# Altium schematic symbol library Schlib.SchLib: 27 symbols
Pins are listed as number, name and electrical type; pins without a type are passive.

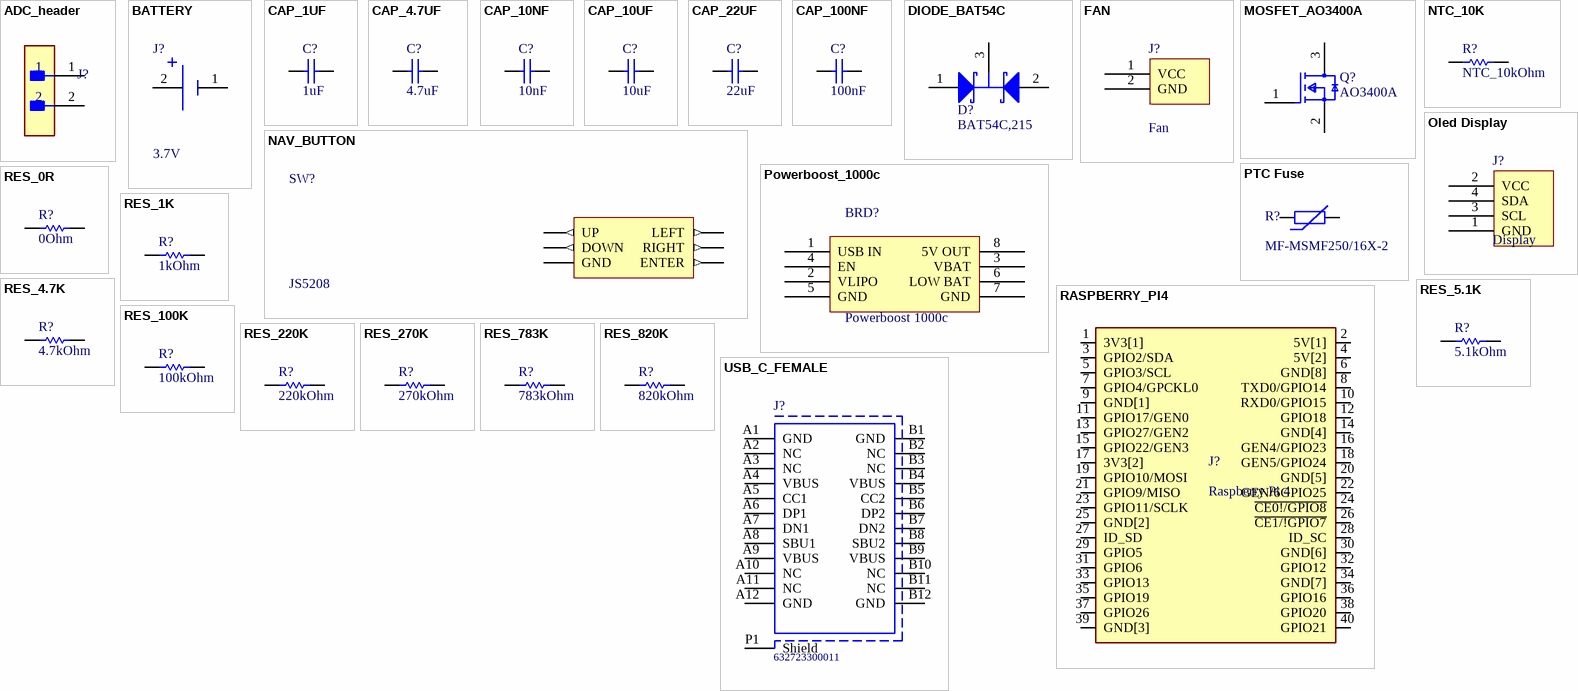
[diagram p0: symbols ADC_header to USB_C_FEMALE]

## ADC_header
designator J?  (value not drawn)
footprint ADC_HEADER
pins: 1, 2

## BATTERY
designator J?, comment 3.7V
CONN HEADER VERT 2POS 1.25MM; Manufacturer Part Number: 53047-0210; Manufacturer: Molex; Conn Gender: Male; Voltage Rating: 125V; Conn Orientation: Vertical; Number Of Contacts: 2; Current Rating: 1A; Contact Material: Tin; Temperature Range Low: -40°C; ComponentLink2URL: http://www.molex.com/webdocs/datasheets/pdf/en-us/0530470210_PCB_HEADERS.pdf; Mouser Description: 1.25mm Pitch PicoBlade™ Wire-to-Board Header, Vertical, with Friction Lock, 2 Circuits; Temperature Range High: +85°C; ComponentLink2Description: Datasheet; Automotive: No; RoHS: TRUE; Ambient Temperature Range High: +85°C; Octopart: https://octopart.com/53047-0210-molex-276772; Footprint Url: https://www.molex.com/pdm_docs/sd/530470210_sd.pdf; Lead Free: Yes; Pitch: 1.25mm; Temperature: -40°C to +85°C; Device Class L2: Headers and Wire Housings; Package: 0; Ambient Temperature Range Low: -40°C; Digikey Description: CONN HEADER VERT 2POS 1.25MM; Category: Conn; Device Class L3: unset; Number Of Rows: 1; Device Class L1: Connectors; Height: 4.4mm
footprint BATTERY_CONNECTOR
pins: 1, 2

## CAP_1UF
designator C?, comment 1uF
PartNumber: 1206GC102KAT1A; Manufacturer: AVX; Capacitance: 0.001uF; Dielectric: X7R; Tolerance: 10%; Tolerance (%): ±10%; Voltage Rating DC: 2000V; Package Reference: 1206; Datasheet Version: 11/2010; Mounting Technology: SurfaceMount; Manufacturer URL: http://www.avx.com/; Datasheet URL: https://datasheet.ciiva.com/11787/0900766b80ed4c37-11787781.pdf; Package Description: 2-Pin SMD, Body 3.4 x 1.8 mm; Case Size/Dimension: 1206; Rated Voltage: 2000V
footprint CAP_0804 (Chip Capacitor, 2-Leads, Body 2.00x1.25mm, IPC Medium Density)
pins: 1, 2

## CAP_4.7UF
designator C?, comment 4.7uF
PartNumber: 1206GC102KAT1A; Manufacturer: AVX; Capacitance: 0.001uF; Dielectric: X7R; Tolerance: 10%; Tolerance (%): ±10%; Voltage Rating DC: 2000V; Package Reference: 1206; Datasheet Version: 11/2010; Mounting Technology: SurfaceMount; Manufacturer URL: http://www.avx.com/; Datasheet URL: https://datasheet.ciiva.com/11787/0900766b80ed4c37-11787781.pdf; Package Description: 2-Pin SMD, Body 3.4 x 1.8 mm; Case Size/Dimension: 1206; Rated Voltage: 2000V
footprint CAP_0804 (Chip Capacitor, 2-Leads, Body 2.00x1.25mm, IPC Medium Density)
pins: 1, 2

## CAP_10NF
designator C?, comment 10nF
PartNumber: 1206GC102KAT1A; Manufacturer: AVX; Capacitance: 0.001uF; Dielectric: X7R; Tolerance: 10%; Tolerance (%): ±10%; Voltage Rating DC: 2000V; Package Reference: 1206; Datasheet Version: 11/2010; Mounting Technology: SurfaceMount; Manufacturer URL: http://www.avx.com/; Datasheet URL: https://datasheet.ciiva.com/11787/0900766b80ed4c37-11787781.pdf; Package Description: 2-Pin SMD, Body 3.4 x 1.8 mm; Case Size/Dimension: 1206; Rated Voltage: 2000V
footprint CAP_0804 (Chip Capacitor, 2-Leads, Body 2.00x1.25mm, IPC Medium Density)
pins: 1, 2

## CAP_10UF
designator C?, comment 10uF
PartNumber: 1206GC102KAT1A; Manufacturer: AVX; Capacitance: 0.001uF; Dielectric: X7R; Tolerance: 10%; Tolerance (%): ±10%; Voltage Rating DC: 2000V; Package Reference: 1206; Datasheet Version: 11/2010; Mounting Technology: SurfaceMount; Manufacturer URL: http://www.avx.com/; Datasheet URL: https://datasheet.ciiva.com/11787/0900766b80ed4c37-11787781.pdf; Package Description: 2-Pin SMD, Body 3.4 x 1.8 mm; Case Size/Dimension: 1206; Rated Voltage: 2000V
footprint CAP_0804 (Chip Capacitor, 2-Leads, Body 2.00x1.25mm, IPC Medium Density)
pins: 1, 2

## CAP_22UF
designator C?, comment 22uF
PartNumber: 1206GC102KAT1A; Manufacturer: AVX; Capacitance: 0.001uF; Dielectric: X7R; Tolerance: 10%; Tolerance (%): ±10%; Voltage Rating DC: 2000V; Package Reference: 1206; Datasheet Version: 11/2010; Mounting Technology: SurfaceMount; Manufacturer URL: http://www.avx.com/; Datasheet URL: https://datasheet.ciiva.com/11787/0900766b80ed4c37-11787781.pdf; Package Description: 2-Pin SMD, Body 3.4 x 1.8 mm; Case Size/Dimension: 1206; Rated Voltage: 2000V
footprint CAP_0804 (Chip Capacitor, 2-Leads, Body 2.00x1.25mm, IPC Medium Density)
pins: 1, 2

## CAP_100NF
designator C?, comment 100nF
PartNumber: 1206GC102KAT1A; Manufacturer: AVX; Capacitance: 0.001uF; Dielectric: X7R; Tolerance: 10%; Tolerance (%): ±10%; Voltage Rating DC: 2000V; Package Reference: 1206; Datasheet Version: 11/2010; Mounting Technology: SurfaceMount; Manufacturer URL: http://www.avx.com/; Datasheet URL: https://datasheet.ciiva.com/11787/0900766b80ed4c37-11787781.pdf; Package Description: 2-Pin SMD, Body 3.4 x 1.8 mm; Case Size/Dimension: 1206; Rated Voltage: 2000V
footprint CAP_0804 (Chip Capacitor, 2-Leads, Body 2.00x1.25mm, IPC Medium Density)
pins: 1, 2

## DIODE_BAT54C
designator D?, comment BAT54C,215
Schottky Barrier Diode, 30 V, 3-Pin SOT23, RoHS, Tape and Reel; Manufacturer: NXP Semiconductors; Forward Surge Current Ifsm Max: 600mA; Pin Configuration: 1A1,2A2,3comK; Package Version: Feb-16; Forward Voltage VF Max: 800mV; SMD Marking: L43/*W1; Diode Case Style: SOT-23; Reverse Recovery Time trr Typ: 5ns; Forward Current If(AV): 200mA; Reel Quantity: 3000; SVHC: NoSVHC(19-Dec-2012); No. of Pins: 3; Junction Temperature Tj Max: 125degC; Common Connection: Cathode; Repetitive Reverse Voltage Vrrm Max: 30V; Operating Temperature Max: 150degC; Operating Temperature Range: -65degCto+150degC; Termination Type: SMD; Package Description: 3-Pin Small Outline Transistor, Body 1.3 x 2.9 mm, Pitch 0.95 mm; Package / Case: SOT-23; Diode Type: Schottky; Manufacturer URL: http://www.nxp.com/; Tape Width: 8mm; Package Reference: SOT23-3; Datasheet URL: https://datasheet.ciiva.com/33723/1668625-33723936.pdf; Datasheet Version: Rev. 5 , 10/2012; Operating Temperature Min: -65degC; Current Ifsm: 600mA; Reverse Recovery Time trr Max: 5ns; Package URL: http://www.nxp.com/documents/outline_drawing/SOT23.pdf; Forward Voltage: 800mV
footprint SOT23
pins: 1 A, 2 A, 3 K

## FAN
designator J?, comment Fan
Tiger Claw(TM) Socket Strip, Through-hole, Vertical, -55 to 105 degC, 2 mm Pitch, 4-Pin, Female, RoHS; Manufacturer: Samtec; PartNumber: MMS-104-01-T-SV; Pitch: 2 mm; PackageDescription: 2mm Through Hole Box Connector Strip Assembly; DatasheetVersion: F-214; ComponentLink1URL: http://www.samtec.com; RoHS: True; Temperature Range: -55 to 105 degC; ComponentLink1Description: Manufacturer URL; Mounting Technology: Through-hole; ComponentLink2Description: Datasheet; Orientation: Vertical; ComponentLink2URL: http://www.samtec.com/documents/webfiles/pdf/MMS.PDF; ComponentLink3Description: Package Specification; ComponentLink3URL: http://www.samtec.com/documents/webfiles/cpdf/MMS-1XX-01-XXX-XX-XXX-MKT1.pdf; PackageVersion: AO, 2/1993; PackageReference: MMS-104-01-X-SV
footprint FAN_CONNECTOR
pins: 1 VCC, 2 GND

## MOSFET_AO3400A
designator Q?, comment AO3400A
MOSFET N-CH 30V 5.7A SOT23; Input Capacitance: 630pF; Number of Elements: 1; Rds On Max: 26.5mR; Max Power Dissipation: 1.4W; Gate to Source Voltage (Vgs): 12V; Min Operating Temperature: -55°C; Lead Free: Lead Free; Number of Pins: 3; Drain to Source Voltage (Vdss): 30V; Case/Package: SOT-23; Mount: Surface Mount; Continuous Drain Current (ID): 5.7A; Radiation Hardening: No; Packaging: Tape and Reel; Max Operating Temperature: 150°C; Power Dissipation: 1.4W
footprint SOT23
pins: 1 G, 2 S, 3 D

## NAV_BUTTON
designator SW?, comment JS5208
E-SWITCH - JS5208 - SWITCH, NAVIGATION, 5 POSITION, 20mA, SMD; Mechanical Life: 100000Cycles; Voltage Rating (DC): 15V; Operating Force: 500gf; Supplier 1: Digi-Key; Manufacturer: E-Switch; RoHS: Yes; Category: Switches; Stock 1: 2460; Pricing 1: 1=2.49000, 5=2.43200, 10=2.04400, 25=1.93360, 50=1.82320, 100=1.65750 (USD); Mount: Surface Mount; Number of Pins: 5; Contact Material: Silver; Min Operating Temperature: -20°C; Max Operating Temperature: 70°C; Termination: Gull Wing; Electrical Life: 100000Cycles; Current Rating: 20mA; Package Quantity: 300; Lead Free: Lead Free; REACH SVHC: No SVHC; ComponentLink1URL: https://datasheet.ciiva.com/1530/js5208-1530917.pdf?src-supplier=Element14; ComponentLink1Description: https://datasheet.ciiva.com/1530/js5208-1530917.pdf?src-supplier=Element14; ComponentLink2URL: https://datasheet.ciiva.com/12447/js5208-19824-12447191.pdf?src-supplier=Mouser; ComponentLink2Description: https://datasheet.ciiva.com/12447/js5208-19824-12447191.pdf?src-supplier=Mouser; ComponentLink3URL: https://datasheet.ciiva.com/2869/p200020c-2869289.pdf?src-supplier=Digi-Key; ComponentLink3Description: https://datasheet.ciiva.com/2869/p200020c-2869289.pdf?src-supplier=Digi-Key; ComponentLink4URL: https://datasheet.ciiva.com/16360/js5208-16360789.pdf?src-supplier=Future+Electronics; ComponentLink4Description: https://datasheet.ciiva.com/16360/js5208-16360789.pdf?src-supplier=Future+Electronics; Supplier Part Number 1: EG4561-ND; Manufacturer Part Number: JS5208
footprint JS5208_PKG
pins: A-U UP (out), B-L LEFT (out), C-D DOWN (out), COM GND (power), D-R RIGHT (out), E-BTN ENTER (out)

## NTC_10K
designator R?, comment NTC_10kOhm
Manufacturer: Vishay Dale; Part Number: NTHS1206N02N1002JE
footprint RES_0804 (Chip Resistor, 2-Leads, Body 2.00x1.25mm, IPC Medium Density)
pins: 1, 2
1 alternate drawing of the same symbol

## Oled Display
designator J?, comment Display
Tiger Claw(TM) Socket Strip, Through-hole, Vertical, -55 to 105 degC, 2 mm Pitch, 4-Pin, Female, RoHS; Manufacturer: Samtec; PartNumber: MMS-104-01-T-SV; Pitch: 2 mm; PackageDescription: 2mm Through Hole Box Connector Strip Assembly; DatasheetVersion: F-214; ComponentLink1URL: http://www.samtec.com; RoHS: True; Temperature Range: -55 to 105 degC; ComponentLink1Description: Manufacturer URL; Mounting Technology: Through-hole; ComponentLink2Description: Datasheet; Orientation: Vertical; ComponentLink2URL: http://www.samtec.com/documents/webfiles/pdf/MMS.PDF; ComponentLink3Description: Package Specification; ComponentLink3URL: http://www.samtec.com/documents/webfiles/cpdf/MMS-1XX-01-XXX-XX-XXX-MKT1.pdf; PackageVersion: AO, 2/1993; PackageReference: MMS-104-01-X-SV
footprint OLED_DISPLAY
pins: 1 GND, 2 VCC, 3 SCL, 4 SDA

## Powerboost_1000c
designator BRD?, comment Powerboost 1000c
BOARD PWRBOOST1000 5V LIPO USB; Manufacturer: Adafruit Industries; Manufacturer Part Number: 2465; Evaluation Kit: Yes; Output Voltage: 5.2V; Output Current: 1A; Switching Frequency: 700kHz; Supplier 1: Digi-Key; RoHS: No; Category: Embedded Processors and Controllers; Stock 1: 834; Pricing 1: 1=19.95000 (USD); Package Quantity: 1; ComponentLink1URL: https://media.digikey.com/pdf/Data%20Sheets/Adafruit%20PDFs/2465_Web.pdf?src-supplier=Digi-Key; ComponentLink1Description: https://media.digikey.com/pdf/Data%20Sheets/Adafruit%20PDFs/2465_Web.pdf?src-supplier=Digi-Key; Supplier Part Number 1: 1528-1349-ND
footprint POWERBOOST_1000C
pins: 1 USB IN, 2 VLIPO, 3 VBAT, 4 EN, 5 GND, 6 LOW BAT, 7 GND, 8 5V OUT

## PTC Fuse
designator R?, comment MF-MSMF250/16X-2
PTC Resettable Fuse 2.5A(hold) 5A(trip) 16V 100A 1.2W 5s 0.015Ohm SMD Solder Pad 1812 T/R; Manufacturer: Bourns; Number of Terminals/Pins: 2; Resistance: 100mR; Approvals: UL,CSA,TUV; Supplier 1: Digi-Key; RoHS: Yes; Category: Fuses; Stock 1: 33109; Pricing 1: 1=0.54000, 5=0.52000, 10=0.50400, 50=0.42400, 100=0.35200, 250=0.32000, 500=0.27200 (USD); Mount: Surface Mount,PCB; Case/Package: 1812; Case Code (Imperial): 1812; Case Code (Metric): 4532; Contact Plating: Gold; Min Operating Temperature: -40°C; Max Operating Temperature: 85°C; Hold Current: 2.5A; Trip Current: 5A; Max Current Rating: 100A; Power Dissipation: 1.2W; Current Rating: 100A; Time to Trip: 5s; Package Quantity: 1500; Packaging: Tape and Reel; Voltage Rating: 16V; Voltage Rating (DC): 16V; Termination: SMD/SMT; Length: 4.73mm; Width: 3.41mm; Height: 1.6mm; Radiation Hardening: No; REACH SVHC: No SVHC; ComponentLink1URL: https://datasheet.ciiva.com/3020/mfmsmf-3020420.pdf?src-supplier=Avnet; ComponentLink1Description: https://datasheet.ciiva.com/3020/mfmsmf-3020420.pdf?src-supplier=Avnet; ComponentLink2URL: https://datasheet.ciiva.com/16206/mfmsmf-16206071.pdf?src-supplier=Onlinecomponents.com; ComponentLink2Description: https://datasheet.ciiva.com/16206/mfmsmf-16206071.pdf?src-supplier=Onlinecomponents.com; ComponentLink3URL: https://datasheet.ciiva.com/7434/mfmsmf-7434296.pdf?src-supplier=Digi-Key; ComponentLink3Description: https://datasheet.ciiva.com/7434/mfmsmf-7434296.pdf?src-supplier=Digi-Key; ComponentLink4URL: https://datasheet.ciiva.com/32430/mf-msmf-series-eng-tds-32430600.pdf?src-supplier=Distrelec; ComponentLink4Description: https://datasheet.ciiva.com/32430/mf-msmf-series-eng-tds-32430600.pdf?src-supplier=Distrelec; ComponentLink5URL: https://datasheet.ciiva.com/7434/mfmsmf-7434298.pdf?src-supplier=Digi-Key; ComponentLink5Description: https://datasheet.ciiva.com/7434/mfmsmf-7434298.pdf?src-supplier=Digi-Key; ComponentLink6URL: https://datasheet.ciiva.com/16692/mfmsmf-16692202.pdf?src-supplier=Avnet+Europe; ComponentLink6Description: https://datasheet.ciiva.com/16692/mfmsmf-16692202.pdf?src-supplier=Avnet+Europe; ComponentLink7URL: https://datasheet.ciiva.com/30088/575mfmsmf-30088346.pdf?src-supplier=Onlinecomponents.com; ComponentLink7Description: https://datasheet.ciiva.com/30088/575mfmsmf-30088346.pdf?src-supplier=Onlinecomponents.com; ComponentLink8URL: https://datasheet.ciiva.com/7434/mfmsmf-7434299.pdf?src-supplier=Digi-Key; ComponentLink8Description: https://datasheet.ciiva.com/7434/mfmsmf-7434299.pdf?src-supplier=Digi-Key; ComponentLink9URL: https://datasheet.ciiva.com/14538/70153434-14538955.pdf?src-supplier=Allied+Electronics; ComponentLink9Description: https://datasheet.ciiva.com/14538/70153434-14538955.pdf?src-supplier=Allied+Electronics; ComponentLink10URL: https://datasheet.ciiva.com/8005/1786007-8005325.pdf?src-supplier=Element14; ComponentLink10Description: https://datasheet.ciiva.com/8005/1786007-8005325.pdf?src-supplier=Element14; ComponentLink11URL: https://datasheet.ciiva.com/48700/001055646-da-01-en-sich-ptc-reset-mf-msmf250-16x-2-2-5a16v-48700197.pdf?src-supplier=Conrad; ComponentLink11Description: https://datasheet.ciiva.com/48700/001055646-da-01-en-sich-ptc-reset-mf-msmf250-16x-2-2-5a16v-48700197.pdf?src-supplier=Conrad; Supplier Part Number 1: MF-MSMF250/16X-2CT-ND; Manufacturer Part Number: MF-MSMF250/16X-2
footprint Res_1812 (Chip Capacitor, Body 4.5x3.2mm, Height 1.25mm, IPC Low Density)
pins: 1, 2

## RASPBERRY_PI4
designator J?, comment Raspberry Pi 4
Raspberry Pi 4 with Headers_; MP: ADA3708; Availability: Unavailable; Package: None; MF: Raspberry Pi; Value: *; Price: None; SnapEDA_Link: https://www.snapeda.com/parts/ADA3708/Raspberry%20Pi/view-part/2770118/?ref=snap
footprint RASPBERRY_PI_4 (Board-to-Board Connector, PC104 CD ISA, Stackthrough, Vertical, 2-Row, 40-Postion, Pitch 2.54mm, Receptacle)
pins: 1 3V3[1] (power), 2 5V[1] (power), 3 GPIO2/SDA (io), 4 5V[2] (power), 5 GPIO3/SCL (io), 6 GND[8] (power), 7 GPIO4/GPCKL0 (io), 8 TXD0/GPIO14 (io), 9 GND[1] (power), 10 RXD0/GPIO15 (io), 11 GPIO17/GEN0 (io), 12 GPIO18 (io), 13 GPIO27/GEN2 (io), 14 GND[4] (power), 15 GPIO22/GEN3 (io), 16 GEN4/GPIO23 (io), 17 3V3[2] (power), 18 GEN5/GPIO24 (io), 19 GPIO10/MOSI (io), 20 GND[5] (power), 21 GPIO9/MISO (io), 22 GEN/6GPIO25 (io), 23 GPIO11/SCLK (io), 24 ~{CE0!/GPIO8} (io), 25 GND[2] (power), 26 ~{CE1/!GPIO7} (io), 27 ID_SD (io), 28 ID_SC (io), 29 GPIO5 (io), 30 GND[6] (power), 31 GPIO6 (io), 32 GPIO12 (io), 33 GPIO13 (io), 34 GND[7] (power), 35 GPIO19 (io), 36 GPIO16 (io), 37 GPIO26 (io), 38 GPIO20 (io), 39 GND[3] (power), 40 GPIO21 (io)

## RES_0R
designator R?, comment 0Ohm
Part Number: CRCW120647K0FKEA; Manufacturer: Vishay Dale
footprint RES_0804 (Chip Resistor, 2-Leads, Body 2.00x1.25mm, IPC Medium Density)
pins: 1, 2
1 alternate drawing of the same symbol

## RES_1K
designator R?, comment 1kOhm
Part Number: CRCW120647K0FKEA; Manufacturer: Vishay Dale
footprint RES_0804 (Chip Resistor, 2-Leads, Body 2.00x1.25mm, IPC Medium Density)
pins: 1, 2
1 alternate drawing of the same symbol

## RES_4.7K
designator R?, comment 4.7kOhm
Part Number: CRCW120647K0FKEA; Manufacturer: Vishay Dale
footprint RES_0804 (Chip Resistor, 2-Leads, Body 2.00x1.25mm, IPC Medium Density)
pins: 1, 2
1 alternate drawing of the same symbol

## RES_5.1K
designator R?, comment 5.1kOhm
Part Number: CRCW120647K0FKEA; Manufacturer: Vishay Dale
footprint RES_0804 (Chip Resistor, 2-Leads, Body 2.00x1.25mm, IPC Medium Density)
pins: 1, 2
1 alternate drawing of the same symbol

## RES_100K
designator R?, comment 100kOhm
Part Number: CRCW120647K0FKEA; Manufacturer: Vishay Dale
footprint RES_0804 (Chip Resistor, 2-Leads, Body 2.00x1.25mm, IPC Medium Density)
pins: 1, 2
1 alternate drawing of the same symbol

## RES_220K
designator R?, comment 220kOhm
Part Number: CRCW120647K0FKEA; Manufacturer: Vishay Dale
footprint RES_0804 (Chip Resistor, 2-Leads, Body 2.00x1.25mm, IPC Medium Density)
pins: 1, 2
1 alternate drawing of the same symbol

## RES_270K
designator R?, comment 270kOhm
Part Number: CRCW120647K0FKEA; Manufacturer: Vishay Dale
footprint RES_0804 (Chip Resistor, 2-Leads, Body 2.00x1.25mm, IPC Medium Density)
pins: 1, 2
1 alternate drawing of the same symbol

## RES_783K
designator R?, comment 783kOhm
Part Number: CRCW120647K0FKEA; Manufacturer: Vishay Dale
footprint RES_0804 (Chip Resistor, 2-Leads, Body 2.00x1.25mm, IPC Medium Density)
pins: 1, 2
1 alternate drawing of the same symbol

## RES_820K
designator R?, comment 820kOhm
Part Number: CRCW120647K0FKEA; Manufacturer: Vishay Dale
footprint RES_0804 (Chip Resistor, 2-Leads, Body 2.00x1.25mm, IPC Medium Density)
pins: 1, 2
1 alternate drawing of the same symbol

## USB_C_FEMALE
designator J?, comment 632723300011
USB 3.1 Type C Receptacle WR-COM, Horizontal, SMT / THT; Manufacturer: Wurth Elektronik; Rated Current: 5A; Contact Resistance: 30mOhm; Working Voltage: 20VDC; Operating Temperature: -40to105degC; Package Reference: 632723300011; Datasheet URL: https://katalog.we-online.de/em/datasheet/632723x00011%282%29.pdf; Manufacturer URL: http://www.we-online.de; Connector Type: USB3.1TypeC; Gender: Receptacle; Part Number: 632723300011; Mounting Technology: SMT/THT; Publisher: WurthElektronik; Packaging: TapeandReel; Orientation: Horizontal
footprint GCT_USB4085-GF-A_REVA (USB 2.0 Type C Receptacle Dip Type, PCB Top Mount)
pins: A1 GND, A2 NC, A3 NC, A4 VBUS, A5 CC1, A6 DP1, A7 DN1, A8 SBU1, A9 VBUS, A10 NC, A11 NC, A12 GND, B1 GND, B2 NC, B3 NC, B4 VBUS, B5 CC2, B6 DP2, B7 DN2, B8 SBU2, B9 VBUS, B10 NC, B11 NC, B12 GND, P1 Shield